# EAGLE library part 629105150921 (library WR-USB)
WR-USB Mini/Micro Connectors Characteristics Mini and Micro form factors, ideal for space-constrained designs Pin configuration: 5 pins for USB 2.0 / 10 pins for USB 3.x Designed for high cycle durability UL, TID listing for USB standards Applications Mobile and handheld devices Wearables and portable accessories Embedded systems and IoT modules Details see: www.we-online.com/en/components/products/INPUT_OUTPUT_WR_USB_STANDARD Updated by Ella 2026-07-03 2026 (C) Würth Elektronik
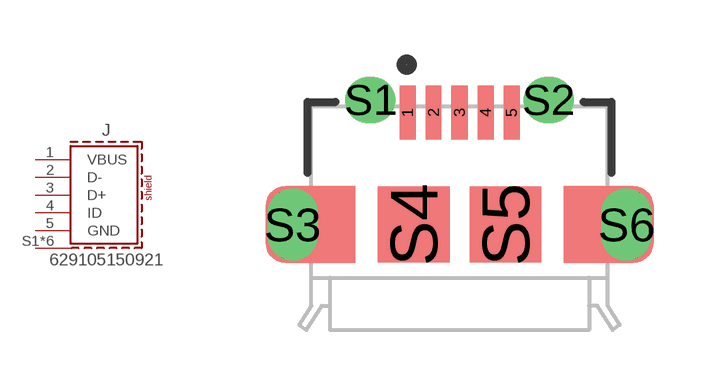
[diagram p8: symbol with the pads of 629105150921; footprint 629105150921]

Designator prefix J

## 629105150921 (APPLICATION: Micro USB 2.0; DATASHEET: https://www.we-online.com/redexpert/spec/629105150921?ae; GERDER: Receptacle; INTERFACE-TYPE: Type AB; IR: 1.8 A; MOUNT: SMT; PACKAGING: Tape and Reel; PART-NUMBER: 629105150921; PCB-THICKNESS: 1.2 mm; PINS: 5pcs; TYPE: Horizontal; VALUE: 629105150921; WORKING-VOLTAGE: 30 V (AC))  [629105150921]
1  VBUS  pas
2  D-  pas
3  D+  pas
4  ID  pas
5  GND  pas
S1  SHIELD  pas
S2  SHIELD  pas
S3  SHIELD  pas
S4  SHIELD  pas
S5  SHIELD  pas
S6  SHIELD  pas

## Footprint 629105150921 (pad centres in mm)
WR-USB Mini/Micro Connectors Micro USB 2.0, Type AB, Horizontal SMT, 5Pins, PCB Thickness:1.2 mm
smd 0.4 x 1.35: 1 -1.3,2.335; 2 -0.65,2.335; 3 0,2.335; 4 0.65,2.335; 5 1.3,2.335
drill 0.65 pad 1.05 slot 0.75: S1 -2.225,2.65; S2 2.225,2.65
drill 0.75 pad 0.75 slot 1.3 rotated 90: S3 -4.175,-0.47; S6 4.175,-0.47
smd 1.8 x 1.9: S4 -1.15,-0.47; S5 1.15,-0.47